# Altium integrated library ALPHA Audio Processor.IntLib: 90 symbols (part 1 of 2)
Pins are listed as number, name and electrical type; pins without a type are passive.

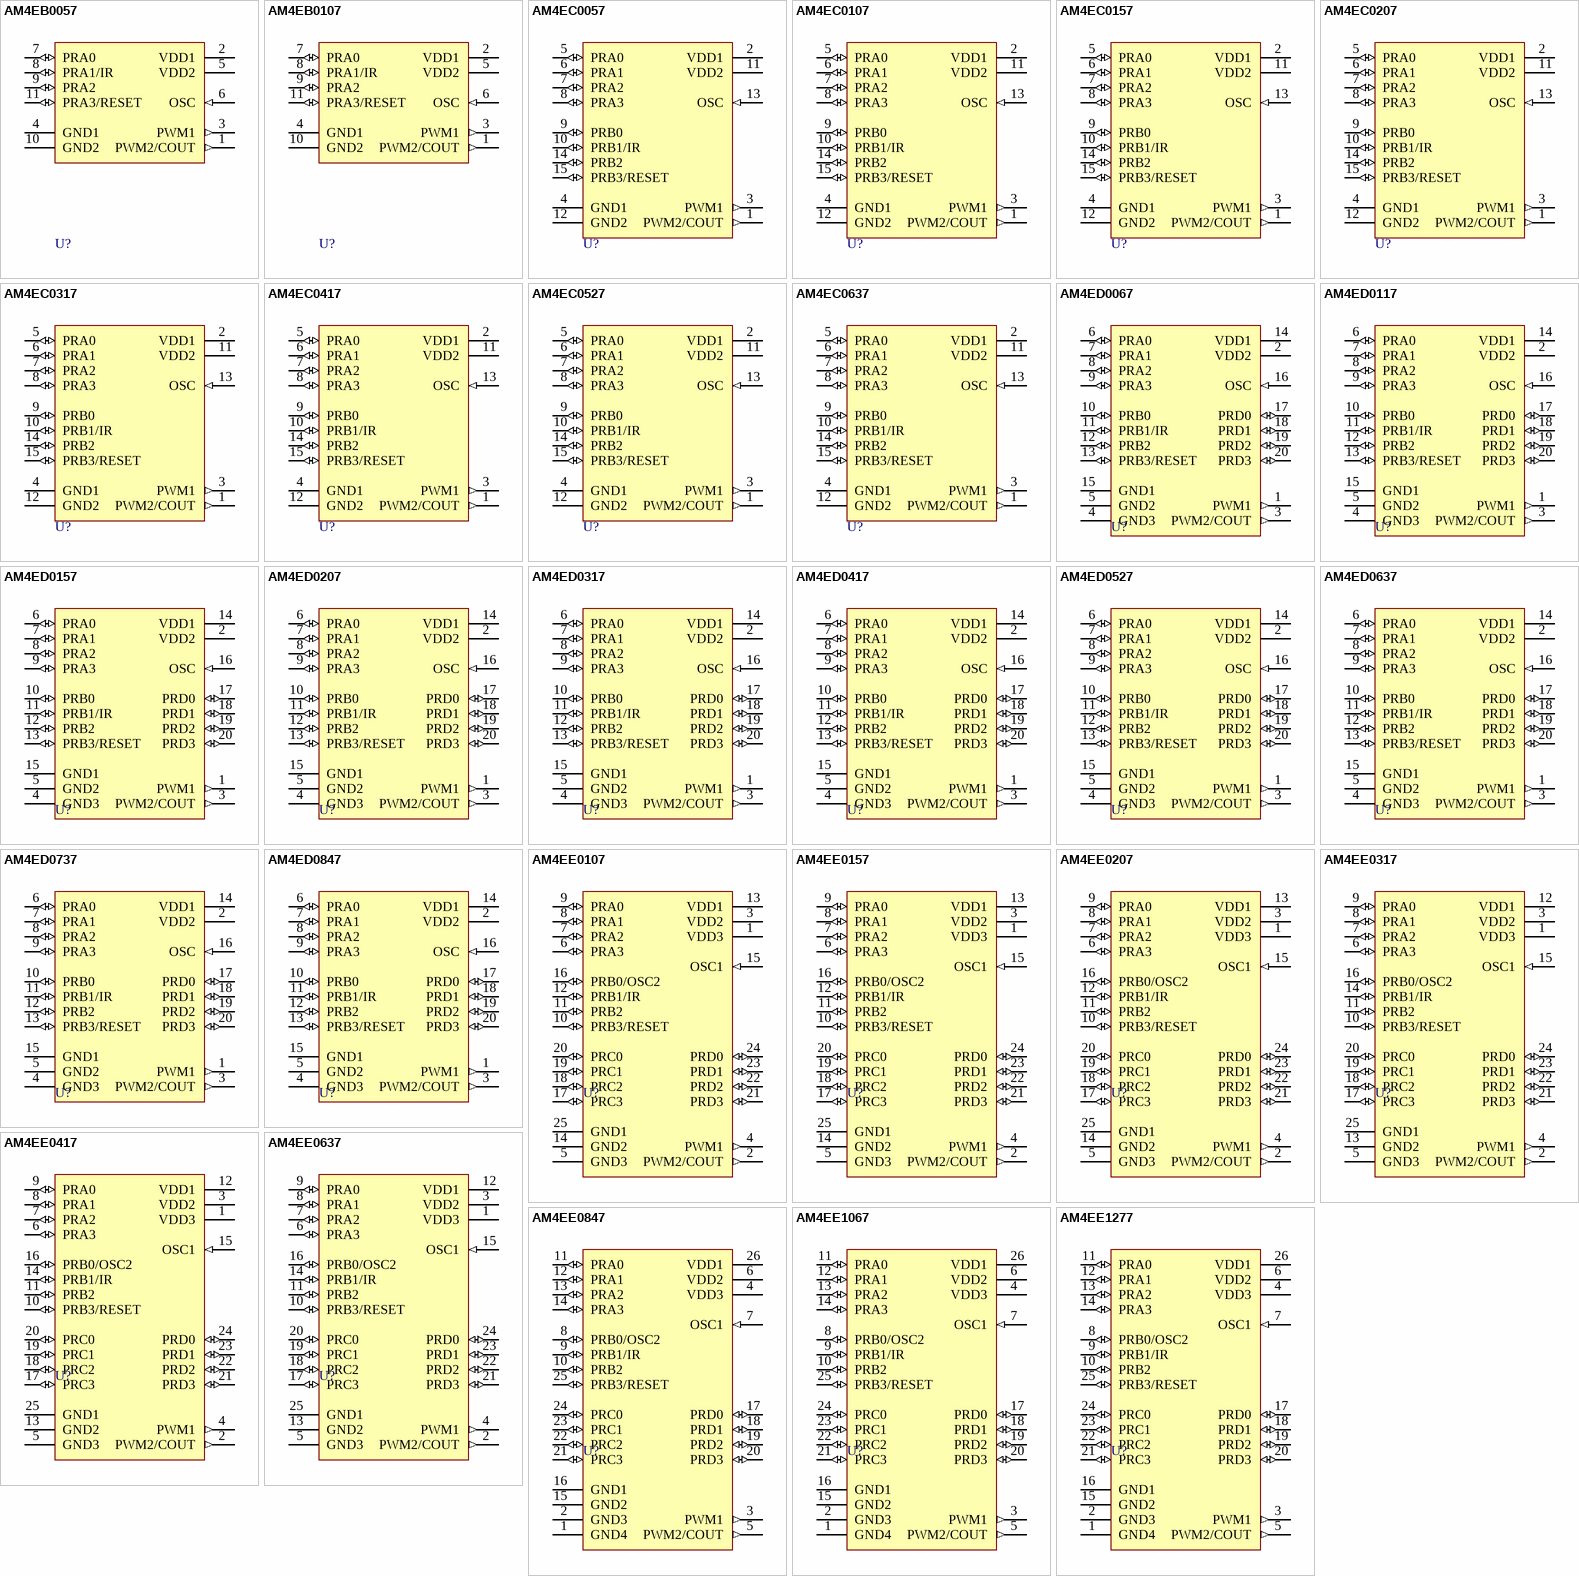
[diagram p0: symbols AM4EB0057 to AM4EE1277]

## AM4EB0057
designator U?
AM4EB Series 4-Bit Audio Synthesizer with 5 Second Voice Duration, 14-Bit VPR and 16k x 10-Bit ROM, Chip Form; PackageForm: Supplied as a Die.; Note: The IC substrate must be connected to GND.; Published: 30-Mar-2007; DatasheetVersion: rev1.5, 2004; PackageReference: Chip_Form; Publisher: Altium Limited; ComponentLink1Description: Manufacturer Link; ComponentLink1URL: http://www.ealpha.com.tw/
pins: 1 PWM2/COUT (out), 2 VDD1 (power), 3 PWM1 (out), 4 GND1 (power), 5 VDD2 (power), 6 OSC (in), 7 PRA0 (io), 8 PRA1/IR (io), 9 PRA2 (io), 10 GND2 (power), 11 PRA3/RESET (io)

## AM4EB0107
designator U?
AM4EB Series 4-Bit Audio Synthesizer with 10 Second Voice Duration, 15-Bit VPR and 32k x 10-Bit ROM, Chip Form; PackageForm: Supplied as a Die.; Note: The IC substrate must be connected to GND.; Published: 30-Mar-2007; DatasheetVersion: rev1.5, 2004; PackageReference: Chip_Form; Publisher: Altium Limited; ComponentLink1Description: Manufacturer Link; ComponentLink1URL: http://www.ealpha.com.tw/
pins: 1 PWM2/COUT (out), 2 VDD1 (power), 3 PWM1 (out), 4 GND1 (power), 5 VDD2 (power), 6 OSC (in), 7 PRA0 (io), 8 PRA1/IR (io), 9 PRA2 (io), 10 GND2 (power), 11 PRA3/RESET (io)

## AM4EC0057
designator U?
AM4EC Series 4-Bit Audio Synthesizer with 5 Second Voice Duration, 14-Bit VPR and 16k x 10-Bit ROM, Chip Form; PackageForm: Supplied as a Die.; Note: The IC substrate must be connected to GND.; Published: 30-Mar-2007; DatasheetVersion: rev1.6, 2004; PackageReference: Chip_Form; Publisher: Altium Limited; ComponentLink1Description: Manufacturer Link; ComponentLink1URL: http://www.ealpha.com.tw/
pins: 1 PWM2/COUT (out), 2 VDD1 (power), 3 PWM1 (out), 4 GND1 (power), 5 PRA0 (io), 6 PRA1 (io), 7 PRA2 (io), 8 PRA3 (io), 9 PRB0 (io), 10 PRB1/IR (io), 11 VDD2 (power), 12 GND2 (power), 13 OSC (in), 14 PRB2 (io), 15 PRB3/RESET (io)

## AM4EC0107
designator U?
AM4EC Series 4-Bit Audio Synthesizer with 10 Second Voice Duration, 15-Bit VPR and 32k x 10-Bit ROM, Chip Form; PackageForm: Supplied as a Die.; Note: The IC substrate must be connected to GND.; Published: 30-Mar-2007; DatasheetVersion: rev1.6, 2004; PackageReference: Chip_Form; Publisher: Altium Limited; ComponentLink1Description: Manufacturer Link; ComponentLink1URL: http://www.ealpha.com.tw/
pins: 1 PWM2/COUT (out), 2 VDD1 (power), 3 PWM1 (out), 4 GND1 (power), 5 PRA0 (io), 6 PRA1 (io), 7 PRA2 (io), 8 PRA3 (io), 9 PRB0 (io), 10 PRB1/IR (io), 11 VDD2 (power), 12 GND2 (power), 13 OSC (in), 14 PRB2 (io), 15 PRB3/RESET (io)

## AM4EC0157
designator U?
AM4EC Series 4-Bit Audio Synthesizer with 15 Second Voice Duration, 16-Bit VPR and 48k x 10-Bit ROM, Chip Form; PackageForm: Supplied as a Die.; Note: The IC substrate must be connected to GND.; Published: 30-Mar-2007; DatasheetVersion: rev1.6, 2004; PackageReference: Chip_Form; Publisher: Altium Limited; ComponentLink1Description: Manufacturer Link; ComponentLink1URL: http://www.ealpha.com.tw/
pins: 1 PWM2/COUT (out), 2 VDD1 (power), 3 PWM1 (out), 4 GND1 (power), 5 PRA0 (io), 6 PRA1 (io), 7 PRA2 (io), 8 PRA3 (io), 9 PRB0 (io), 10 PRB1/IR (io), 11 VDD2 (power), 12 GND2 (power), 13 OSC (in), 14 PRB2 (io), 15 PRB3/RESET (io)

## AM4EC0207
designator U?
AM4EC Series 4-Bit Audio Synthesizer with 20 Second Voice Duration, 16-Bit VPR and 64k x 10-Bit ROM, Chip Form; PackageForm: Supplied as a Die.; Note: The IC substrate must be connected to GND.; Published: 30-Mar-2007; DatasheetVersion: rev1.6, 2004; PackageReference: Chip_Form; Publisher: Altium Limited; ComponentLink1Description: Manufacturer Link; ComponentLink1URL: http://www.ealpha.com.tw/
pins: 1 PWM2/COUT (out), 2 VDD1 (power), 3 PWM1 (out), 4 GND1 (power), 5 PRA0 (io), 6 PRA1 (io), 7 PRA2 (io), 8 PRA3 (io), 9 PRB0 (io), 10 PRB1/IR (io), 11 VDD2 (power), 12 GND2 (power), 13 OSC (in), 14 PRB2 (io), 15 PRB3/RESET (io)

## AM4EC0317
designator U?
AM4EC Series 4-Bit Audio Synthesizer with 31 Second Voice Duration, 17-Bit VPR and 96k x 10-Bit ROM, Chip Form; PackageForm: Supplied as a Die.; Note: The IC substrate must be connected to GND.; Published: 30-Mar-2007; DatasheetVersion: rev1.6, 2004; PackageReference: Chip_Form; Publisher: Altium Limited; ComponentLink1Description: Manufacturer Link; ComponentLink1URL: http://www.ealpha.com.tw/
pins: 1 PWM2/COUT (out), 2 VDD1 (power), 3 PWM1 (out), 4 GND1 (power), 5 PRA0 (io), 6 PRA1 (io), 7 PRA2 (io), 8 PRA3 (io), 9 PRB0 (io), 10 PRB1/IR (io), 11 VDD2 (power), 12 GND2 (power), 13 OSC (in), 14 PRB2 (io), 15 PRB3/RESET (io)

## AM4EC0417
designator U?
AM4EC Series 4-Bit Audio Synthesizer with 41 Second Voice Duration, 17-Bit VPR and 128k x 10-Bit ROM, Chip Form; PackageForm: Supplied as a Die.; Note: The IC substrate must be connected to GND.; Published: 30-Mar-2007; DatasheetVersion: rev1.6, 2004; PackageReference: Chip_Form; Publisher: Altium Limited; ComponentLink1Description: Manufacturer Link; ComponentLink1URL: http://www.ealpha.com.tw/
pins: 1 PWM2/COUT (out), 2 VDD1 (power), 3 PWM1 (out), 4 GND1 (power), 5 PRA0 (io), 6 PRA1 (io), 7 PRA2 (io), 8 PRA3 (io), 9 PRB0 (io), 10 PRB1/IR (io), 11 VDD2 (power), 12 GND2 (power), 13 OSC (in), 14 PRB2 (io), 15 PRB3/RESET (io)

## AM4EC0527
designator U?
AM4EC Series 4-Bit Audio Synthesizer with 52 Second Voice Duration, 18-Bit VPR and 160k x 10-Bit ROM, Chip Form; PackageForm: Supplied as a Die.; Note: The IC substrate must be connected to GND.; Published: 30-Mar-2007; DatasheetVersion: rev1.6, 2004; PackageReference: Chip_Form; Publisher: Altium Limited; ComponentLink1Description: Manufacturer Link; ComponentLink1URL: http://www.ealpha.com.tw/
pins: 1 PWM2/COUT (out), 2 VDD1 (power), 3 PWM1 (out), 4 GND1 (power), 5 PRA0 (io), 6 PRA1 (io), 7 PRA2 (io), 8 PRA3 (io), 9 PRB0 (io), 10 PRB1/IR (io), 11 VDD2 (power), 12 GND2 (power), 13 OSC (in), 14 PRB2 (io), 15 PRB3/RESET (io)

## AM4EC0637
designator U?
AM4EC Series 4-Bit Audio Synthesizer with 63 Second Voice Duration, 18-Bit VPR and 192k x 10-Bit ROM, Chip Form; PackageForm: Supplied as a Die.; Note: The IC substrate must be connected to GND.; Published: 30-Mar-2007; DatasheetVersion: rev1.6, 2004; PackageReference: Chip_Form; Publisher: Altium Limited; ComponentLink1Description: Manufacturer Link; ComponentLink1URL: http://www.ealpha.com.tw/
pins: 1 PWM2/COUT (out), 2 VDD1 (power), 3 PWM1 (out), 4 GND1 (power), 5 PRA0 (io), 6 PRA1 (io), 7 PRA2 (io), 8 PRA3 (io), 9 PRB0 (io), 10 PRB1/IR (io), 11 VDD2 (power), 12 GND2 (power), 13 OSC (in), 14 PRB2 (io), 15 PRB3/RESET (io)

## AM4ED0067
designator U?
AM4ED Series 4-Bit Audio Synthesizer with 6 Second Voice Duration, 14-Bit VPR and 20k x 10-Bit ROM, Chip Form; PackageForm: Supplied as a Die.; Note: The IC substrate must be connected to GND.; Published: 30-Mar-2007; DatasheetVersion: rev1.6, 2004; PackageReference: Chip_Form; Publisher: Altium Limited; ComponentLink1Description: Manufacturer Link; ComponentLink1URL: http://www.ealpha.com.tw/
pins: 1 PWM1 (out), 2 VDD2 (power), 3 PWM2/COUT (out), 4 GND3 (power), 5 GND2 (power), 6 PRA0 (io), 7 PRA1 (io), 8 PRA2 (io), 9 PRA3 (io), 10 PRB0 (io), 11 PRB1/IR (io), 12 PRB2 (io), 13 PRB3/RESET (io), 14 VDD1 (power), 15 GND1 (power), 16 OSC (in), 17 PRD0 (io), 18 PRD1 (io), 19 PRD2 (io), 20 PRD3 (io)

## AM4ED0117
designator U?
AM4ED Series 4-Bit Audio Synthesizer with 11 Second Voice Duration, 15-Bit VPR and 32k x 10-Bit ROM, Chip Form; PackageForm: Supplied as a Die.; Note: The IC substrate must be connected to GND.; Published: 30-Mar-2007; DatasheetVersion: rev1.6, 2004; PackageReference: Chip_Form; Publisher: Altium Limited; ComponentLink1Description: Manufacturer Link; ComponentLink1URL: http://www.ealpha.com.tw/
pins: 1 PWM1 (out), 2 VDD2 (power), 3 PWM2/COUT (out), 4 GND3 (power), 5 GND2 (power), 6 PRA0 (io), 7 PRA1 (io), 8 PRA2 (io), 9 PRA3 (io), 10 PRB0 (io), 11 PRB1/IR (io), 12 PRB2 (io), 13 PRB3/RESET (io), 14 VDD1 (power), 15 GND1 (power), 16 OSC (in), 17 PRD0 (io), 18 PRD1 (io), 19 PRD2 (io), 20 PRD3 (io)

## AM4ED0157
designator U?
AM4ED Series 4-Bit Audio Synthesizer with 15 Second Voice Duration, 16-Bit VPR and 48k x 10-Bit ROM, Chip Form; PackageForm: Supplied as a Die.; Note: The IC substrate must be connected to GND.; Published: 30-Mar-2007; DatasheetVersion: rev1.6, 2004; PackageReference: Chip_Form; Publisher: Altium Limited; ComponentLink1Description: Manufacturer Link; ComponentLink1URL: http://www.ealpha.com.tw/
pins: 1 PWM1 (out), 2 VDD2 (power), 3 PWM2/COUT (out), 4 GND3 (power), 5 GND2 (power), 6 PRA0 (io), 7 PRA1 (io), 8 PRA2 (io), 9 PRA3 (io), 10 PRB0 (io), 11 PRB1/IR (io), 12 PRB2 (io), 13 PRB3/RESET (io), 14 VDD1 (power), 15 GND1 (power), 16 OSC (in), 17 PRD0 (io), 18 PRD1 (io), 19 PRD2 (io), 20 PRD3 (io)

## AM4ED0207
designator U?
AM4ED Series 4-Bit Audio Synthesizer with 20 Second Voice Duration, 16-Bit VPR and 64k x 10-Bit ROM, Chip Form; PackageForm: Supplied as a Die.; Note: The IC substrate must be connected to GND.; Published: 30-Mar-2007; DatasheetVersion: rev1.6, 2004; PackageReference: Chip_Form; Publisher: Altium Limited; ComponentLink1Description: Manufacturer Link; ComponentLink1URL: http://www.ealpha.com.tw/
pins: 1 PWM1 (out), 2 VDD2 (power), 3 PWM2/COUT (out), 4 GND3 (power), 5 GND2 (power), 6 PRA0 (io), 7 PRA1 (io), 8 PRA2 (io), 9 PRA3 (io), 10 PRB0 (io), 11 PRB1/IR (io), 12 PRB2 (io), 13 PRB3/RESET (io), 14 VDD1 (power), 15 GND1 (power), 16 OSC (in), 17 PRD0 (io), 18 PRD1 (io), 19 PRD2 (io), 20 PRD3 (io)

## AM4ED0317
designator U?
AM4ED Series 4-Bit Audio Synthesizer with 31 Second Voice Duration, 17-Bit VPR and 96k x 10-Bit ROM, Chip Form; PackageForm: Supplied as a Die.; Note: The IC substrate must be connected to GND.; Published: 30-Mar-2007; DatasheetVersion: rev1.6, 2004; PackageReference: Chip_Form; Publisher: Altium Limited; ComponentLink1Description: Manufacturer Link; ComponentLink1URL: http://www.ealpha.com.tw/
pins: 1 PWM1 (out), 2 VDD2 (power), 3 PWM2/COUT (out), 4 GND3 (power), 5 GND2 (power), 6 PRA0 (io), 7 PRA1 (io), 8 PRA2 (io), 9 PRA3 (io), 10 PRB0 (io), 11 PRB1/IR (io), 12 PRB2 (io), 13 PRB3/RESET (io), 14 VDD1 (power), 15 GND1 (power), 16 OSC (in), 17 PRD0 (io), 18 PRD1 (io), 19 PRD2 (io), 20 PRD3 (io)

## AM4ED0417
designator U?
AM4ED Series 4-Bit Audio Synthesizer with 41 Second Voice Duration, 17-Bit VPR and 128k x 10-Bit ROM, Chip Form; PackageForm: Supplied as a Die.; Note: The IC substrate must be connected to GND.; Published: 30-Mar-2007; DatasheetVersion: rev1.6, 2004; PackageReference: Chip_Form; Publisher: Altium Limited; ComponentLink1Description: Manufacturer Link; ComponentLink1URL: http://www.ealpha.com.tw/
pins: 1 PWM1 (out), 2 VDD2 (power), 3 PWM2/COUT (out), 4 GND3 (power), 5 GND2 (power), 6 PRA0 (io), 7 PRA1 (io), 8 PRA2 (io), 9 PRA3 (io), 10 PRB0 (io), 11 PRB1/IR (io), 12 PRB2 (io), 13 PRB3/RESET (io), 14 VDD1 (power), 15 GND1 (power), 16 OSC (in), 17 PRD0 (io), 18 PRD1 (io), 19 PRD2 (io), 20 PRD3 (io)

## AM4ED0527
designator U?
AM4ED Series 4-Bit Audio Synthesizer with 52 Second Voice Duration, 18-Bit VPR and 160k x 10-Bit ROM, Chip Form; PackageForm: Supplied as a Die.; Note: The IC substrate must be connected to GND.; Published: 30-Mar-2007; DatasheetVersion: rev1.6, 2004; PackageReference: Chip_Form; Publisher: Altium Limited; ComponentLink1Description: Manufacturer Link; ComponentLink1URL: http://www.ealpha.com.tw/
pins: 1 PWM1 (out), 2 VDD2 (power), 3 PWM2/COUT (out), 4 GND3 (power), 5 GND2 (power), 6 PRA0 (io), 7 PRA1 (io), 8 PRA2 (io), 9 PRA3 (io), 10 PRB0 (io), 11 PRB1/IR (io), 12 PRB2 (io), 13 PRB3/RESET (io), 14 VDD1 (power), 15 GND1 (power), 16 OSC (in), 17 PRD0 (io), 18 PRD1 (io), 19 PRD2 (io), 20 PRD3 (io)

## AM4ED0637
designator U?
AM4ED Series 4-Bit Audio Synthesizer with 63 Second Voice Duration, 18-Bit VPR and 192k x 10-Bit ROM, Chip Form; PackageForm: Supplied as a Die.; Note: The IC substrate must be connected to GND.; Published: 30-Mar-2007; DatasheetVersion: rev1.6, 2004; PackageReference: Chip_Form; Publisher: Altium Limited; ComponentLink1Description: Manufacturer Link; ComponentLink1URL: http://www.ealpha.com.tw/
pins: 1 PWM1 (out), 2 VDD2 (power), 3 PWM2/COUT (out), 4 GND3 (power), 5 GND2 (power), 6 PRA0 (io), 7 PRA1 (io), 8 PRA2 (io), 9 PRA3 (io), 10 PRB0 (io), 11 PRB1/IR (io), 12 PRB2 (io), 13 PRB3/RESET (io), 14 VDD1 (power), 15 GND1 (power), 16 OSC (in), 17 PRD0 (io), 18 PRD1 (io), 19 PRD2 (io), 20 PRD3 (io)

## AM4ED0737
designator U?
AM4ED Series 4-Bit Audio Synthesizer with 73 Second Voice Duration, 18-Bit VPR and 224k x 10-Bit ROM, Chip Form; PackageForm: Supplied as a Die.; Note: The IC substrate must be connected to GND.; Published: 30-Mar-2007; DatasheetVersion: rev1.6, 2004; PackageReference: Chip_Form; Publisher: Altium Limited; ComponentLink1Description: Manufacturer Link; ComponentLink1URL: http://www.ealpha.com.tw/
pins: 1 PWM1 (out), 2 VDD2 (power), 3 PWM2/COUT (out), 4 GND3 (power), 5 GND2 (power), 6 PRA0 (io), 7 PRA1 (io), 8 PRA2 (io), 9 PRA3 (io), 10 PRB0 (io), 11 PRB1/IR (io), 12 PRB2 (io), 13 PRB3/RESET (io), 14 VDD1 (power), 15 GND1 (power), 16 OSC (in), 17 PRD0 (io), 18 PRD1 (io), 19 PRD2 (io), 20 PRD3 (io)

## AM4ED0847
designator U?
AM4ED Series 4-Bit Audio Synthesizer with 84 Second Voice Duration, 18-Bit VPR and 256k x 10-Bit ROM, Chip Form; PackageForm: Supplied as a Die.; Note: The IC substrate must be connected to GND.; Published: 30-Mar-2007; DatasheetVersion: rev1.6, 2004; PackageReference: Chip_Form; Publisher: Altium Limited; ComponentLink1Description: Manufacturer Link; ComponentLink1URL: http://www.ealpha.com.tw/
pins: 1 PWM1 (out), 2 VDD2 (power), 3 PWM2/COUT (out), 4 GND3 (power), 5 GND2 (power), 6 PRA0 (io), 7 PRA1 (io), 8 PRA2 (io), 9 PRA3 (io), 10 PRB0 (io), 11 PRB1/IR (io), 12 PRB2 (io), 13 PRB3/RESET (io), 14 VDD1 (power), 15 GND1 (power), 16 OSC (in), 17 PRD0 (io), 18 PRD1 (io), 19 PRD2 (io), 20 PRD3 (io)

## AM4EE0107
designator U?
AM4EE Series 4-Bit Audio Synthesizer with 10 Second Voice Duration, 15-Bit VPR and 32k x 10-Bit ROM, Chip Form; PackageForm: Supplied as a Die.; Note: The IC substrate must be connected to GND.; Published: 30-Mar-2007; DatasheetVersion: rev1.7, 2004; PackageReference: Chip_Form; Publisher: Altium Limited; ComponentLink1Description: Manufacturer Link; ComponentLink1URL: http://www.ealpha.com.tw/
pins: 1 VDD3 (power), 2 PWM2/COUT (out), 3 VDD2 (power), 4 PWM1 (out), 5 GND3 (power), 6 PRA3 (io), 7 PRA2 (io), 8 PRA1 (io), 9 PRA0 (io), 10 PRB3/RESET (io), 11 PRB2 (io), 12 PRB1/IR (io), 13 VDD1 (power), 14 GND2 (power), 15 OSC1 (in), 16 PRB0/OSC2 (io), 17 PRC3 (io), 18 PRC2 (io), 19 PRC1 (io), 20 PRC0 (io), 21 PRD3 (io), 22 PRD2 (io), 23 PRD1 (io), 24 PRD0 (io), 25 GND1 (power)

## AM4EE0157
designator U?
AM4EE Series 4-Bit Audio Synthesizer with 15 Second Voice Duration, 16-Bit VPR and 48k x 10-Bit ROM, Chip Form; PackageForm: Supplied as a Die.; Note: The IC substrate must be connected to GND.; Published: 30-Mar-2007; DatasheetVersion: rev1.7, 2004; PackageReference: Chip_Form; Publisher: Altium Limited; ComponentLink1Description: Manufacturer Link; ComponentLink1URL: http://www.ealpha.com.tw/
pins: 1 VDD3 (power), 2 PWM2/COUT (out), 3 VDD2 (power), 4 PWM1 (out), 5 GND3 (power), 6 PRA3 (io), 7 PRA2 (io), 8 PRA1 (io), 9 PRA0 (io), 10 PRB3/RESET (io), 11 PRB2 (io), 12 PRB1/IR (io), 13 VDD1 (power), 14 GND2 (power), 15 OSC1 (in), 16 PRB0/OSC2 (io), 17 PRC3 (io), 18 PRC2 (io), 19 PRC1 (io), 20 PRC0 (io), 21 PRD3 (io), 22 PRD2 (io), 23 PRD1 (io), 24 PRD0 (io), 25 GND1 (power)

## AM4EE0207
designator U?
AM4EE Series 4-Bit Audio Synthesizer with 20 Second Voice Duration, 16-Bit VPR and 64k x 10-Bit ROM, Chip Form; PackageForm: Supplied as a Die.; Note: The IC substrate must be connected to GND.; Published: 30-Mar-2007; DatasheetVersion: rev1.7, 2004; PackageReference: Chip_Form; Publisher: Altium Limited; ComponentLink1Description: Manufacturer Link; ComponentLink1URL: http://www.ealpha.com.tw/
pins: 1 VDD3 (power), 2 PWM2/COUT (out), 3 VDD2 (power), 4 PWM1 (out), 5 GND3 (power), 6 PRA3 (io), 7 PRA2 (io), 8 PRA1 (io), 9 PRA0 (io), 10 PRB3/RESET (io), 11 PRB2 (io), 12 PRB1/IR (io), 13 VDD1 (power), 14 GND2 (power), 15 OSC1 (in), 16 PRB0/OSC2 (io), 17 PRC3 (io), 18 PRC2 (io), 19 PRC1 (io), 20 PRC0 (io), 21 PRD3 (io), 22 PRD2 (io), 23 PRD1 (io), 24 PRD0 (io), 25 GND1 (power)

## AM4EE0317
designator U?
AM4EE Series 4-Bit Audio Synthesizer with 31 Second Voice Duration, 17-Bit VPR and 96k x 10-Bit ROM, Chip Form; PackageForm: Supplied as a Die.; Note: The IC substrate must be connected to GND.; Published: 30-Mar-2007; DatasheetVersion: rev1.7, 2004; PackageReference: Chip_Form; Publisher: Altium Limited; ComponentLink1Description: Manufacturer Link; ComponentLink1URL: http://www.ealpha.com.tw/
pins: 1 VDD3 (power), 2 PWM2/COUT (out), 3 VDD2 (power), 4 PWM1 (out), 5 GND3 (power), 6 PRA3 (io), 7 PRA2 (io), 8 PRA1 (io), 9 PRA0 (io), 10 PRB3/RESET (io), 11 PRB2 (io), 12 VDD1 (power), 13 GND2 (power), 14 PRB1/IR (io), 15 OSC1 (in), 16 PRB0/OSC2 (io), 17 PRC3 (io), 18 PRC2 (io), 19 PRC1 (io), 20 PRC0 (io), 21 PRD3 (io), 22 PRD2 (io), 23 PRD1 (io), 24 PRD0 (io), 25 GND1 (power)

## AM4EE0417
designator U?
AM4EE Series 4-Bit Audio Synthesizer with 41 Second Voice Duration, 17-Bit VPR and 128k x 10-Bit ROM, Chip Form; PackageForm: Supplied as a Die.; Note: The IC substrate must be connected to GND.; Published: 30-Mar-2007; DatasheetVersion: rev1.7, 2004; PackageReference: Chip_Form; Publisher: Altium Limited; ComponentLink1Description: Manufacturer Link; ComponentLink1URL: http://www.ealpha.com.tw/
pins: 1 VDD3 (power), 2 PWM2/COUT (out), 3 VDD2 (power), 4 PWM1 (out), 5 GND3 (power), 6 PRA3 (io), 7 PRA2 (io), 8 PRA1 (io), 9 PRA0 (io), 10 PRB3/RESET (io), 11 PRB2 (io), 12 VDD1 (power), 13 GND2 (power), 14 PRB1/IR (io), 15 OSC1 (in), 16 PRB0/OSC2 (io), 17 PRC3 (io), 18 PRC2 (io), 19 PRC1 (io), 20 PRC0 (io), 21 PRD3 (io), 22 PRD2 (io), 23 PRD1 (io), 24 PRD0 (io), 25 GND1 (power)

## AM4EE0637
designator U?
AM4EE Series 4-Bit Audio Synthesizer with 63 Second Voice Duration, 18-Bit VPR and 192k x 10-Bit ROM, Chip Form; PackageForm: Supplied as a Die.; Note: The IC substrate must be connected to GND.; Published: 30-Mar-2007; DatasheetVersion: rev1.7, 2004; PackageReference: Chip_Form; Publisher: Altium Limited; ComponentLink1Description: Manufacturer Link; ComponentLink1URL: http://www.ealpha.com.tw/
pins: 1 VDD3 (power), 2 PWM2/COUT (out), 3 VDD2 (power), 4 PWM1 (out), 5 GND3 (power), 6 PRA3 (io), 7 PRA2 (io), 8 PRA1 (io), 9 PRA0 (io), 10 PRB3/RESET (io), 11 PRB2 (io), 12 VDD1 (power), 13 GND2 (power), 14 PRB1/IR (io), 15 OSC1 (in), 16 PRB0/OSC2 (io), 17 PRC3 (io), 18 PRC2 (io), 19 PRC1 (io), 20 PRC0 (io), 21 PRD3 (io), 22 PRD2 (io), 23 PRD1 (io), 24 PRD0 (io), 25 GND1 (power)

## AM4EE0847
designator U?
AM4EE Series 4-Bit Audio Synthesizer with 84 Second Voice Duration, 18-Bit VPR and 256k x 10-Bit ROM, Chip Form; PackageForm: Supplied as a Die.; Note: The IC substrate must be connected to GND.; Published: 30-Mar-2007; DatasheetVersion: rev1.7, 2004; PackageReference: Chip_Form; Publisher: Altium Limited; ComponentLink1Description: Manufacturer Link; ComponentLink1URL: http://www.ealpha.com.tw/
pins: 1 GND4 (power), 2 GND3 (power), 3 PWM1 (out), 4 VDD3 (power), 5 PWM2/COUT (out), 6 VDD2 (power), 7 OSC1 (in), 8 PRB0/OSC2 (io), 9 PRB1/IR (io), 10 PRB2 (io), 11 PRA0 (io), 12 PRA1 (io), 13 PRA2 (io), 14 PRA3 (io), 15 GND2 (power), 16 GND1 (power), 17 PRD0 (io), 18 PRD1 (io), 19 PRD2 (io), 20 PRD3 (io), 21 PRC3 (io), 22 PRC2 (io), 23 PRC1 (io), 24 PRC0 (io), 25 PRB3/RESET (io), 26 VDD1 (power)

## AM4EE1067
designator U?
AM4EE Series 4-Bit Audio Synthesizer with 106 Second Voice Duration, 19-Bit VPR and 320k x 10-Bit ROM, Chip Form; PackageForm: Supplied as a Die.; Note: The IC substrate must be connected to GND.; Published: 30-Mar-2007; DatasheetVersion: rev1.7, 2004; PackageReference: Chip_Form; Publisher: Altium Limited; ComponentLink1Description: Manufacturer Link; ComponentLink1URL: http://www.ealpha.com.tw/
pins: 1 GND4 (power), 2 GND3 (power), 3 PWM1 (out), 4 VDD3 (power), 5 PWM2/COUT (out), 6 VDD2 (power), 7 OSC1 (in), 8 PRB0/OSC2 (io), 9 PRB1/IR (io), 10 PRB2 (io), 11 PRA0 (io), 12 PRA1 (io), 13 PRA2 (io), 14 PRA3 (io), 15 GND2 (power), 16 GND1 (power), 17 PRD0 (io), 18 PRD1 (io), 19 PRD2 (io), 20 PRD3 (io), 21 PRC3 (io), 22 PRC2 (io), 23 PRC1 (io), 24 PRC0 (io), 25 PRB3/RESET (io), 26 VDD1 (power)

## AM4EE1277
designator U?
AM4EE Series 4-Bit Audio Synthesizer with 127 Second Voice Duration, 19-Bit VPR and 384k x 10-Bit ROM, Chip Form; PackageForm: Supplied as a Die.; Note: The IC substrate must be connected to GND.; Published: 30-Mar-2007; DatasheetVersion: rev1.7, 2004; PackageReference: Chip_Form; Publisher: Altium Limited; ComponentLink1Description: Manufacturer Link; ComponentLink1URL: http://www.ealpha.com.tw/
pins: 1 GND4 (power), 2 GND3 (power), 3 PWM1 (out), 4 VDD3 (power), 5 PWM2/COUT (out), 6 VDD2 (power), 7 OSC1 (in), 8 PRB0/OSC2 (io), 9 PRB1/IR (io), 10 PRB2 (io), 11 PRA0 (io), 12 PRA1 (io), 13 PRA2 (io), 14 PRA3 (io), 15 GND2 (power), 16 GND1 (power), 17 PRD0 (io), 18 PRD1 (io), 19 PRD2 (io), 20 PRD3 (io), 21 PRC3 (io), 22 PRC2 (io), 23 PRC1 (io), 24 PRC0 (io), 25 PRB3/RESET (io), 26 VDD1 (power)

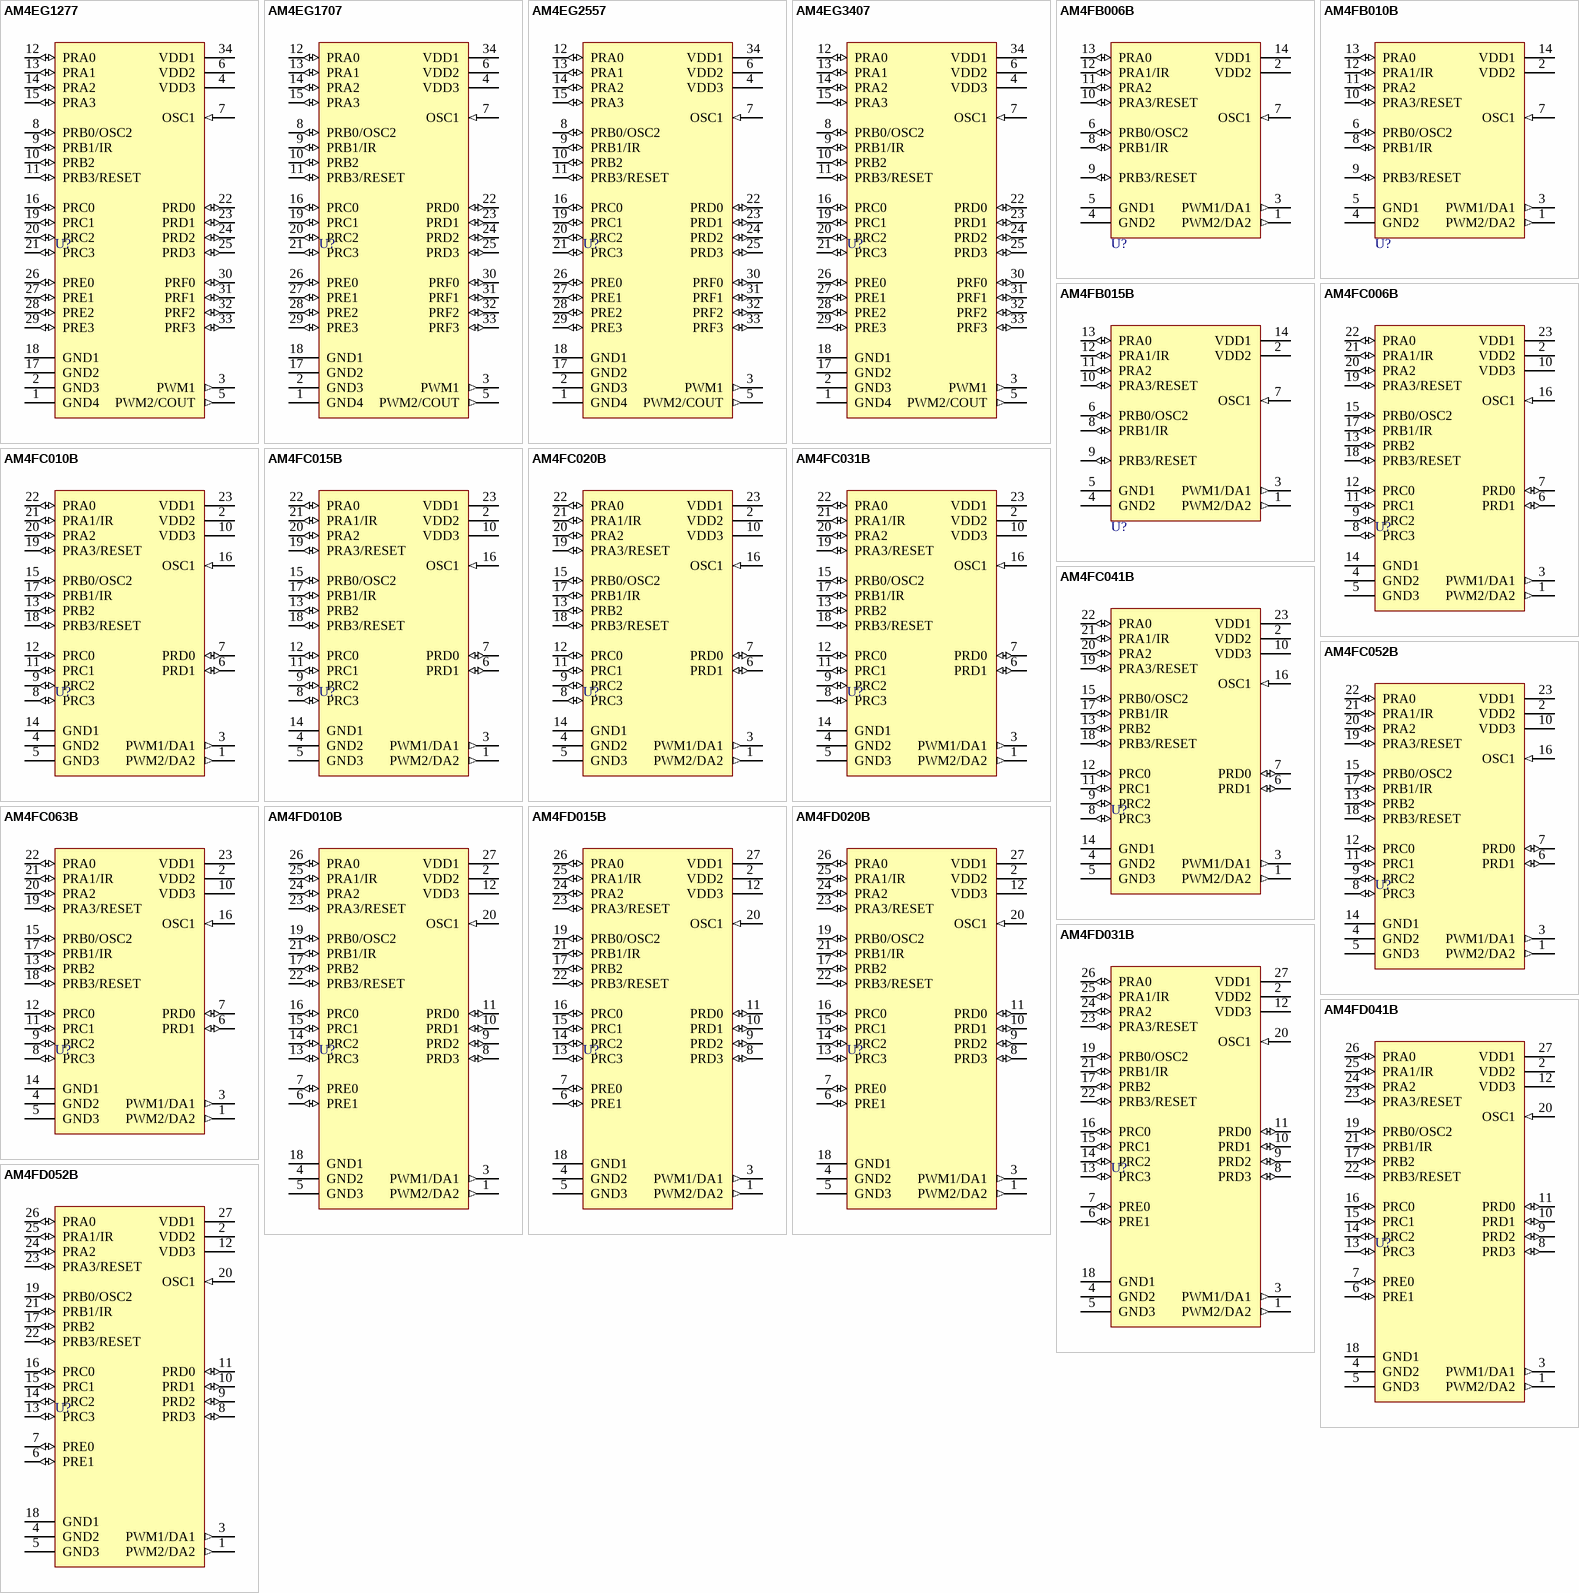
[diagram p1: symbols AM4EG1277 to AM4FD052B]

## AM4EG1277
designator U?
AM4EG Series 4-Bit Audio Synthesizer with 127 Second Voice Duration, 19-Bit VPR and 384k x 10-Bit ROM, Chip Form; PackageForm: Supplied as a Die.; Note: The IC substrate must be connected to GND.; Published: 30-Mar-2007; DatasheetVersion: rev1.6, 2004; PackageReference: Chip_Form; Publisher: Altium Limited; ComponentLink1Description: Manufacturer Link; ComponentLink1URL: http://www.ealpha.com.tw/
pins: 1 GND4 (power), 2 GND3 (power), 3 PWM1 (out), 4 VDD3 (power), 5 PWM2/COUT (out), 6 VDD2 (power), 7 OSC1 (in), 8 PRB0/OSC2 (io), 9 PRB1/IR (io), 10 PRB2 (io), 11 PRB3/RESET (io), 12 PRA0 (io), 13 PRA1 (io), 14 PRA2 (io), 15 PRA3 (io), 16 PRC0 (io), 17 GND2 (power), 18 GND1 (power), 19 PRC1 (io), 20 PRC2 (io), 21 PRC3 (io), 22 PRD0 (io), 23 PRD1 (io), 24 PRD2 (io), 25 PRD3 (io), 26 PRE0 (io), 27 PRE1 (io), 28 PRE2 (io), 29 PRE3 (io), 30 PRF0 (io), 31 PRF1 (io), 32 PRF2 (io), 33 PRF3 (io), 34 VDD1 (power)

## AM4EG1707
designator U?
AM4EG Series 4-Bit Audio Synthesizer with 170 Second Voice Duration, 19-Bit VPR and 512k x 10-Bit ROM, Chip Form; PackageForm: Supplied as a Die.; Note: The IC substrate must be connected to GND.; Published: 30-Mar-2007; DatasheetVersion: rev1.6, 2004; PackageReference: Chip_Form; Publisher: Altium Limited; ComponentLink1Description: Manufacturer Link; ComponentLink1URL: http://www.ealpha.com.tw/
pins: 1 GND4 (power), 2 GND3 (power), 3 PWM1 (out), 4 VDD3 (power), 5 PWM2/COUT (out), 6 VDD2 (power), 7 OSC1 (in), 8 PRB0/OSC2 (io), 9 PRB1/IR (io), 10 PRB2 (io), 11 PRB3/RESET (io), 12 PRA0 (io), 13 PRA1 (io), 14 PRA2 (io), 15 PRA3 (io), 16 PRC0 (io), 17 GND2 (power), 18 GND1 (power), 19 PRC1 (io), 20 PRC2 (io), 21 PRC3 (io), 22 PRD0 (io), 23 PRD1 (io), 24 PRD2 (io), 25 PRD3 (io), 26 PRE0 (io), 27 PRE1 (io), 28 PRE2 (io), 29 PRE3 (io), 30 PRF0 (io), 31 PRF1 (io), 32 PRF2 (io), 33 PRF3 (io), 34 VDD1 (power)

## AM4EG2557
designator U?
AM4EG Series 4-Bit Audio Synthesizer with 255 Second Voice Duration, 20-Bit VPR and 768k x 10-Bit ROM, Chip Form; PackageForm: Supplied as a Die.; Note: The IC substrate must be connected to GND.; Published: 30-Mar-2007; DatasheetVersion: rev1.6, 2004; PackageReference: Chip_Form; Publisher: Altium Limited; ComponentLink1Description: Manufacturer Link; ComponentLink1URL: http://www.ealpha.com.tw/
pins: 1 GND4 (power), 2 GND3 (power), 3 PWM1 (out), 4 VDD3 (power), 5 PWM2/COUT (out), 6 VDD2 (power), 7 OSC1 (in), 8 PRB0/OSC2 (io), 9 PRB1/IR (io), 10 PRB2 (io), 11 PRB3/RESET (io), 12 PRA0 (io), 13 PRA1 (io), 14 PRA2 (io), 15 PRA3 (io), 16 PRC0 (io), 17 GND2 (power), 18 GND1 (power), 19 PRC1 (io), 20 PRC2 (io), 21 PRC3 (io), 22 PRD0 (io), 23 PRD1 (io), 24 PRD2 (io), 25 PRD3 (io), 26 PRE0 (io), 27 PRE1 (io), 28 PRE2 (io), 29 PRE3 (io), 30 PRF0 (io), 31 PRF1 (io), 32 PRF2 (io), 33 PRF3 (io), 34 VDD1 (power)

## AM4EG3407
designator U?
AM4EG Series 4-Bit Audio Synthesizer with 340 Second Voice Duration, 20-Bit VPR and 1024k x 10-Bit ROM, Chip Form; PackageForm: Supplied as a Die.; Note: The IC substrate must be connected to GND.; Published: 30-Mar-2007; DatasheetVersion: rev1.6, 2004; PackageReference: Chip_Form; Publisher: Altium Limited; ComponentLink1Description: Manufacturer Link; ComponentLink1URL: http://www.ealpha.com.tw/
pins: 1 GND4 (power), 2 GND3 (power), 3 PWM1 (out), 4 VDD3 (power), 5 PWM2/COUT (out), 6 VDD2 (power), 7 OSC1 (in), 8 PRB0/OSC2 (io), 9 PRB1/IR (io), 10 PRB2 (io), 11 PRB3/RESET (io), 12 PRA0 (io), 13 PRA1 (io), 14 PRA2 (io), 15 PRA3 (io), 16 PRC0 (io), 17 GND2 (power), 18 GND1 (power), 19 PRC1 (io), 20 PRC2 (io), 21 PRC3 (io), 22 PRD0 (io), 23 PRD1 (io), 24 PRD2 (io), 25 PRD3 (io), 26 PRE0 (io), 27 PRE1 (io), 28 PRE2 (io), 29 PRE3 (io), 30 PRF0 (io), 31 PRF1 (io), 32 PRF2 (io), 33 PRF3 (io), 34 VDD1 (power)

## AM4FB006B
designator U?
AM4FB Series 4-Bit Audio Synthesizer with 6 Second Voice Duration and 24k x 12-Bit ROM, Chip Form; PackageForm: Supplied as a Die.; Note: The IC substrate must be connected to GND.; Published: 30-Mar-2007; DatasheetVersion: rev1.4, 2005; PackageReference: Chip_Form; Publisher: Altium Limited; ComponentLink1Description: Manufacturer Link; ComponentLink1URL: http://www.ealpha.com.tw/
pins: 1 PWM2/DA2 (out), 2 VDD2 (power), 3 PWM1/DA1 (out), 4 GND2 (power), 5 GND1 (power), 6 PRB0/OSC2 (io), 7 OSC1 (in), 8 PRB1/IR (io), 9 PRB3/RESET (io), 10 PRA3/RESET (io), 11 PRA2 (io), 12 PRA1/IR (io), 13 PRA0 (io), 14 VDD1 (power)

## AM4FB010B
designator U?
AM4FB Series 4-Bit Audio Synthesizer with 10 Second Voice Duration and 32k x 12-Bit ROM, Chip Form; PackageForm: Supplied as a Die.; Note: The IC substrate must be connected to GND.; Published: 30-Mar-2007; DatasheetVersion: rev1.4, 2005; PackageReference: Chip_Form; Publisher: Altium Limited; ComponentLink1Description: Manufacturer Link; ComponentLink1URL: http://www.ealpha.com.tw/
pins: 1 PWM2/DA2 (out), 2 VDD2 (power), 3 PWM1/DA1 (out), 4 GND2 (power), 5 GND1 (power), 6 PRB0/OSC2 (io), 7 OSC1 (in), 8 PRB1/IR (io), 9 PRB3/RESET (io), 10 PRA3/RESET (io), 11 PRA2 (io), 12 PRA1/IR (io), 13 PRA0 (io), 14 VDD1 (power)

## AM4FB015B
designator U?
AM4FB Series 4-Bit Audio Synthesizer with 15 Second Voice Duration and 48k x 12-Bit ROM, Chip Form; PackageForm: Supplied as a Die.; Note: The IC substrate must be connected to GND.; Published: 30-Mar-2007; DatasheetVersion: rev1.4, 2005; PackageReference: Chip_Form; Publisher: Altium Limited; ComponentLink1Description: Manufacturer Link; ComponentLink1URL: http://www.ealpha.com.tw/
pins: 1 PWM2/DA2 (out), 2 VDD2 (power), 3 PWM1/DA1 (out), 4 GND2 (power), 5 GND1 (power), 6 PRB0/OSC2 (io), 7 OSC1 (in), 8 PRB1/IR (io), 9 PRB3/RESET (io), 10 PRA3/RESET (io), 11 PRA2 (io), 12 PRA1/IR (io), 13 PRA0 (io), 14 VDD1 (power)

## AM4FC006B
designator U?
AM4FC Series 4-Bit Audio Synthesizer with 6 Second Voice Duration and 24k x 12-Bit ROM, Chip Form; PackageForm: Supplied as a Die.; Note: The IC substrate must be connected to GND.; Published: 30-Mar-2007; DatasheetVersion: rev1.3, 2005; PackageReference: Chip_Form; Publisher: Altium Limited; ComponentLink1Description: Manufacturer Link; ComponentLink1URL: http://www.ealpha.com.tw/
pins: 1 PWM2/DA2 (out), 2 VDD2 (power), 3 PWM1/DA1 (out), 4 GND2 (power), 5 GND3 (power), 6 PRD1 (io), 7 PRD0 (io), 8 PRC3 (io), 9 PRC2 (io), 10 VDD3 (power), 11 PRC1 (io), 12 PRC0 (io), 13 PRB2 (io), 14 GND1 (power), 15 PRB0/OSC2 (io), 16 OSC1 (in), 17 PRB1/IR (io), 18 PRB3/RESET (io), 19 PRA3/RESET (io), 20 PRA2 (io), 21 PRA1/IR (io), 22 PRA0 (io), 23 VDD1 (power)

## AM4FC010B
designator U?
AM4FC Series 4-Bit Audio Synthesizer with 10 Second Voice Duration and 32k x 12-Bit ROM, Chip Form; PackageForm: Supplied as a Die.; Note: The IC substrate must be connected to GND.; Published: 30-Mar-2007; DatasheetVersion: rev1.3, 2005; PackageReference: Chip_Form; Publisher: Altium Limited; ComponentLink1Description: Manufacturer Link; ComponentLink1URL: http://www.ealpha.com.tw/
pins: 1 PWM2/DA2 (out), 2 VDD2 (power), 3 PWM1/DA1 (out), 4 GND2 (power), 5 GND3 (power), 6 PRD1 (io), 7 PRD0 (io), 8 PRC3 (io), 9 PRC2 (io), 10 VDD3 (power), 11 PRC1 (io), 12 PRC0 (io), 13 PRB2 (io), 14 GND1 (power), 15 PRB0/OSC2 (io), 16 OSC1 (in), 17 PRB1/IR (io), 18 PRB3/RESET (io), 19 PRA3/RESET (io), 20 PRA2 (io), 21 PRA1/IR (io), 22 PRA0 (io), 23 VDD1 (power)

## AM4FC015B
designator U?
AM4FC Series 4-Bit Audio Synthesizer with 15 Second Voice Duration and 48k x 12-Bit ROM, Chip Form; PackageForm: Supplied as a Die.; Note: The IC substrate must be connected to GND.; Published: 30-Mar-2007; DatasheetVersion: rev1.3, 2005; PackageReference: Chip_Form; Publisher: Altium Limited; ComponentLink1Description: Manufacturer Link; ComponentLink1URL: http://www.ealpha.com.tw/
pins: 1 PWM2/DA2 (out), 2 VDD2 (power), 3 PWM1/DA1 (out), 4 GND2 (power), 5 GND3 (power), 6 PRD1 (io), 7 PRD0 (io), 8 PRC3 (io), 9 PRC2 (io), 10 VDD3 (power), 11 PRC1 (io), 12 PRC0 (io), 13 PRB2 (io), 14 GND1 (power), 15 PRB0/OSC2 (io), 16 OSC1 (in), 17 PRB1/IR (io), 18 PRB3/RESET (io), 19 PRA3/RESET (io), 20 PRA2 (io), 21 PRA1/IR (io), 22 PRA0 (io), 23 VDD1 (power)

## AM4FC020B
designator U?
AM4FC Series 4-Bit Audio Synthesizer with 20 Second Voice Duration and 64k x 12-Bit ROM, Chip Form; PackageForm: Supplied as a Die.; Note: The IC substrate must be connected to GND.; Published: 30-Mar-2007; DatasheetVersion: rev1.3, 2005; PackageReference: Chip_Form; Publisher: Altium Limited; ComponentLink1Description: Manufacturer Link; ComponentLink1URL: http://www.ealpha.com.tw/
pins: 1 PWM2/DA2 (out), 2 VDD2 (power), 3 PWM1/DA1 (out), 4 GND2 (power), 5 GND3 (power), 6 PRD1 (io), 7 PRD0 (io), 8 PRC3 (io), 9 PRC2 (io), 10 VDD3 (power), 11 PRC1 (io), 12 PRC0 (io), 13 PRB2 (io), 14 GND1 (power), 15 PRB0/OSC2 (io), 16 OSC1 (in), 17 PRB1/IR (io), 18 PRB3/RESET (io), 19 PRA3/RESET (io), 20 PRA2 (io), 21 PRA1/IR (io), 22 PRA0 (io), 23 VDD1 (power)

## AM4FC031B
designator U?
AM4FC Series 4-Bit Audio Synthesizer with 31 Second Voice Duration and 96k x 12-Bit ROM, Chip Form; PackageForm: Supplied as a Die.; Note: The IC substrate must be connected to GND.; Published: 30-Mar-2007; DatasheetVersion: rev1.3, 2005; PackageReference: Chip_Form; Publisher: Altium Limited; ComponentLink1Description: Manufacturer Link; ComponentLink1URL: http://www.ealpha.com.tw/
pins: 1 PWM2/DA2 (out), 2 VDD2 (power), 3 PWM1/DA1 (out), 4 GND2 (power), 5 GND3 (power), 6 PRD1 (io), 7 PRD0 (io), 8 PRC3 (io), 9 PRC2 (io), 10 VDD3 (power), 11 PRC1 (io), 12 PRC0 (io), 13 PRB2 (io), 14 GND1 (power), 15 PRB0/OSC2 (io), 16 OSC1 (in), 17 PRB1/IR (io), 18 PRB3/RESET (io), 19 PRA3/RESET (io), 20 PRA2 (io), 21 PRA1/IR (io), 22 PRA0 (io), 23 VDD1 (power)

## AM4FC041B
designator U?
AM4FC Series 4-Bit Audio Synthesizer with 41 Second Voice Duration and 128k x 12-Bit ROM, Chip Form; PackageForm: Supplied as a Die.; Note: The IC substrate must be connected to GND.; Published: 30-Mar-2007; DatasheetVersion: rev1.3, 2005; PackageReference: Chip_Form; Publisher: Altium Limited; ComponentLink1Description: Manufacturer Link; ComponentLink1URL: http://www.ealpha.com.tw/
pins: 1 PWM2/DA2 (out), 2 VDD2 (power), 3 PWM1/DA1 (out), 4 GND2 (power), 5 GND3 (power), 6 PRD1 (io), 7 PRD0 (io), 8 PRC3 (io), 9 PRC2 (io), 10 VDD3 (power), 11 PRC1 (io), 12 PRC0 (io), 13 PRB2 (io), 14 GND1 (power), 15 PRB0/OSC2 (io), 16 OSC1 (in), 17 PRB1/IR (io), 18 PRB3/RESET (io), 19 PRA3/RESET (io), 20 PRA2 (io), 21 PRA1/IR (io), 22 PRA0 (io), 23 VDD1 (power)

## AM4FC052B
designator U?
AM4FC Series 4-Bit Audio Synthesizer with 52 Second Voice Duration and 160k x 12-Bit ROM, Chip Form; PackageForm: Supplied as a Die.; Note: The IC substrate must be connected to GND.; Published: 30-Mar-2007; DatasheetVersion: rev1.3, 2005; PackageReference: Chip_Form; Publisher: Altium Limited; ComponentLink1Description: Manufacturer Link; ComponentLink1URL: http://www.ealpha.com.tw/
pins: 1 PWM2/DA2 (out), 2 VDD2 (power), 3 PWM1/DA1 (out), 4 GND2 (power), 5 GND3 (power), 6 PRD1 (io), 7 PRD0 (io), 8 PRC3 (io), 9 PRC2 (io), 10 VDD3 (power), 11 PRC1 (io), 12 PRC0 (io), 13 PRB2 (io), 14 GND1 (power), 15 PRB0/OSC2 (io), 16 OSC1 (in), 17 PRB1/IR (io), 18 PRB3/RESET (io), 19 PRA3/RESET (io), 20 PRA2 (io), 21 PRA1/IR (io), 22 PRA0 (io), 23 VDD1 (power)

## AM4FC063B
designator U?
AM4FC Series 4-Bit Audio Synthesizer with 63 Second Voice Duration and 192k x 12-Bit ROM, Chip Form; PackageForm: Supplied as a Die.; Note: The IC substrate must be connected to GND.; Published: 30-Mar-2007; DatasheetVersion: rev1.3, 2005; PackageReference: Chip_Form; Publisher: Altium Limited; ComponentLink1Description: Manufacturer Link; ComponentLink1URL: http://www.ealpha.com.tw/
pins: 1 PWM2/DA2 (out), 2 VDD2 (power), 3 PWM1/DA1 (out), 4 GND2 (power), 5 GND3 (power), 6 PRD1 (io), 7 PRD0 (io), 8 PRC3 (io), 9 PRC2 (io), 10 VDD3 (power), 11 PRC1 (io), 12 PRC0 (io), 13 PRB2 (io), 14 GND1 (power), 15 PRB0/OSC2 (io), 16 OSC1 (in), 17 PRB1/IR (io), 18 PRB3/RESET (io), 19 PRA3/RESET (io), 20 PRA2 (io), 21 PRA1/IR (io), 22 PRA0 (io), 23 VDD1 (power)

## AM4FD010B
designator U?
AM4FD Series 4-Bit Audio Synthesizer with 10 Second Voice Duration and 32k x 12-Bit ROM, Chip Form; PackageForm: Supplied as a Die.; Note: The IC substrate must be connected to GND.; Published: 30-Mar-2007; DatasheetVersion: rev1.4, 2005; PackageReference: Chip_Form; Publisher: Altium Limited; ComponentLink1Description: Manufacturer Link; ComponentLink1URL: http://www.ealpha.com.tw/
pins: 1 PWM2/DA2 (out), 2 VDD2 (power), 3 PWM1/DA1 (out), 4 GND2 (power), 5 GND3 (power), 6 PRE1 (io), 7 PRE0 (io), 8 PRD3 (io), 9 PRD2 (io), 10 PRD1 (io), 11 PRD0 (io), 12 VDD3 (power), 13 PRC3 (io), 14 PRC2 (io), 15 PRC1 (io), 16 PRC0 (io), 17 PRB2 (io), 18 GND1 (power), 19 PRB0/OSC2 (io), 20 OSC1 (in), 21 PRB1/IR (io), 22 PRB3/RESET (io), 23 PRA3/RESET (io), 24 PRA2 (io), 25 PRA1/IR (io), 26 PRA0 (io), 27 VDD1 (power)

## AM4FD015B
designator U?
AM4FD Series 4-Bit Audio Synthesizer with 15 Second Voice Duration and 48k x 12-Bit ROM, Chip Form; PackageForm: Supplied as a Die.; Note: The IC substrate must be connected to GND.; Published: 30-Mar-2007; DatasheetVersion: rev1.4, 2005; PackageReference: Chip_Form; Publisher: Altium Limited; ComponentLink1Description: Manufacturer Link; ComponentLink1URL: http://www.ealpha.com.tw/
pins: 1 PWM2/DA2 (out), 2 VDD2 (power), 3 PWM1/DA1 (out), 4 GND2 (power), 5 GND3 (power), 6 PRE1 (io), 7 PRE0 (io), 8 PRD3 (io), 9 PRD2 (io), 10 PRD1 (io), 11 PRD0 (io), 12 VDD3 (power), 13 PRC3 (io), 14 PRC2 (io), 15 PRC1 (io), 16 PRC0 (io), 17 PRB2 (io), 18 GND1 (power), 19 PRB0/OSC2 (io), 20 OSC1 (in), 21 PRB1/IR (io), 22 PRB3/RESET (io), 23 PRA3/RESET (io), 24 PRA2 (io), 25 PRA1/IR (io), 26 PRA0 (io), 27 VDD1 (power)

## AM4FD020B
designator U?
AM4FD Series 4-Bit Audio Synthesizer with 20 Second Voice Duration and 64k x 12-Bit ROM, Chip Form; PackageForm: Supplied as a Die.; Note: The IC substrate must be connected to GND.; Published: 30-Mar-2007; DatasheetVersion: rev1.4, 2005; PackageReference: Chip_Form; Publisher: Altium Limited; ComponentLink1Description: Manufacturer Link; ComponentLink1URL: http://www.ealpha.com.tw/
pins: 1 PWM2/DA2 (out), 2 VDD2 (power), 3 PWM1/DA1 (out), 4 GND2 (power), 5 GND3 (power), 6 PRE1 (io), 7 PRE0 (io), 8 PRD3 (io), 9 PRD2 (io), 10 PRD1 (io), 11 PRD0 (io), 12 VDD3 (power), 13 PRC3 (io), 14 PRC2 (io), 15 PRC1 (io), 16 PRC0 (io), 17 PRB2 (io), 18 GND1 (power), 19 PRB0/OSC2 (io), 20 OSC1 (in), 21 PRB1/IR (io), 22 PRB3/RESET (io), 23 PRA3/RESET (io), 24 PRA2 (io), 25 PRA1/IR (io), 26 PRA0 (io), 27 VDD1 (power)

## AM4FD031B
designator U?
AM4FD Series 4-Bit Audio Synthesizer with 31 Second Voice Duration and 96k x 12-Bit ROM, Chip Form; PackageForm: Supplied as a Die.; Note: The IC substrate must be connected to GND.; Published: 30-Mar-2007; DatasheetVersion: rev1.4, 2005; PackageReference: Chip_Form; Publisher: Altium Limited; ComponentLink1Description: Manufacturer Link; ComponentLink1URL: http://www.ealpha.com.tw/
pins: 1 PWM2/DA2 (out), 2 VDD2 (power), 3 PWM1/DA1 (out), 4 GND2 (power), 5 GND3 (power), 6 PRE1 (io), 7 PRE0 (io), 8 PRD3 (io), 9 PRD2 (io), 10 PRD1 (io), 11 PRD0 (io), 12 VDD3 (power), 13 PRC3 (io), 14 PRC2 (io), 15 PRC1 (io), 16 PRC0 (io), 17 PRB2 (io), 18 GND1 (power), 19 PRB0/OSC2 (io), 20 OSC1 (in), 21 PRB1/IR (io), 22 PRB3/RESET (io), 23 PRA3/RESET (io), 24 PRA2 (io), 25 PRA1/IR (io), 26 PRA0 (io), 27 VDD1 (power)

## AM4FD041B
designator U?
AM4FD Series 4-Bit Audio Synthesizer with 41 Second Voice Duration and 128k x 12-Bit ROM, Chip Form; PackageForm: Supplied as a Die.; Note: The IC substrate must be connected to GND.; Published: 30-Mar-2007; DatasheetVersion: rev1.4, 2005; PackageReference: Chip_Form; Publisher: Altium Limited; ComponentLink1Description: Manufacturer Link; ComponentLink1URL: http://www.ealpha.com.tw/
pins: 1 PWM2/DA2 (out), 2 VDD2 (power), 3 PWM1/DA1 (out), 4 GND2 (power), 5 GND3 (power), 6 PRE1 (io), 7 PRE0 (io), 8 PRD3 (io), 9 PRD2 (io), 10 PRD1 (io), 11 PRD0 (io), 12 VDD3 (power), 13 PRC3 (io), 14 PRC2 (io), 15 PRC1 (io), 16 PRC0 (io), 17 PRB2 (io), 18 GND1 (power), 19 PRB0/OSC2 (io), 20 OSC1 (in), 21 PRB1/IR (io), 22 PRB3/RESET (io), 23 PRA3/RESET (io), 24 PRA2 (io), 25 PRA1/IR (io), 26 PRA0 (io), 27 VDD1 (power)

## AM4FD052B
designator U?
AM4FD Series 4-Bit Audio Synthesizer with 52 Second Voice Duration and 160k x 12-Bit ROM, Chip Form; PackageForm: Supplied as a Die.; Note: The IC substrate must be connected to GND.; Published: 30-Mar-2007; DatasheetVersion: rev1.4, 2005; PackageReference: Chip_Form; Publisher: Altium Limited; ComponentLink1Description: Manufacturer Link; ComponentLink1URL: http://www.ealpha.com.tw/
pins: 1 PWM2/DA2 (out), 2 VDD2 (power), 3 PWM1/DA1 (out), 4 GND2 (power), 5 GND3 (power), 6 PRE1 (io), 7 PRE0 (io), 8 PRD3 (io), 9 PRD2 (io), 10 PRD1 (io), 11 PRD0 (io), 12 VDD3 (power), 13 PRC3 (io), 14 PRC2 (io), 15 PRC1 (io), 16 PRC0 (io), 17 PRB2 (io), 18 GND1 (power), 19 PRB0/OSC2 (io), 20 OSC1 (in), 21 PRB1/IR (io), 22 PRB3/RESET (io), 23 PRA3/RESET (io), 24 PRA2 (io), 25 PRA1/IR (io), 26 PRA0 (io), 27 VDD1 (power)

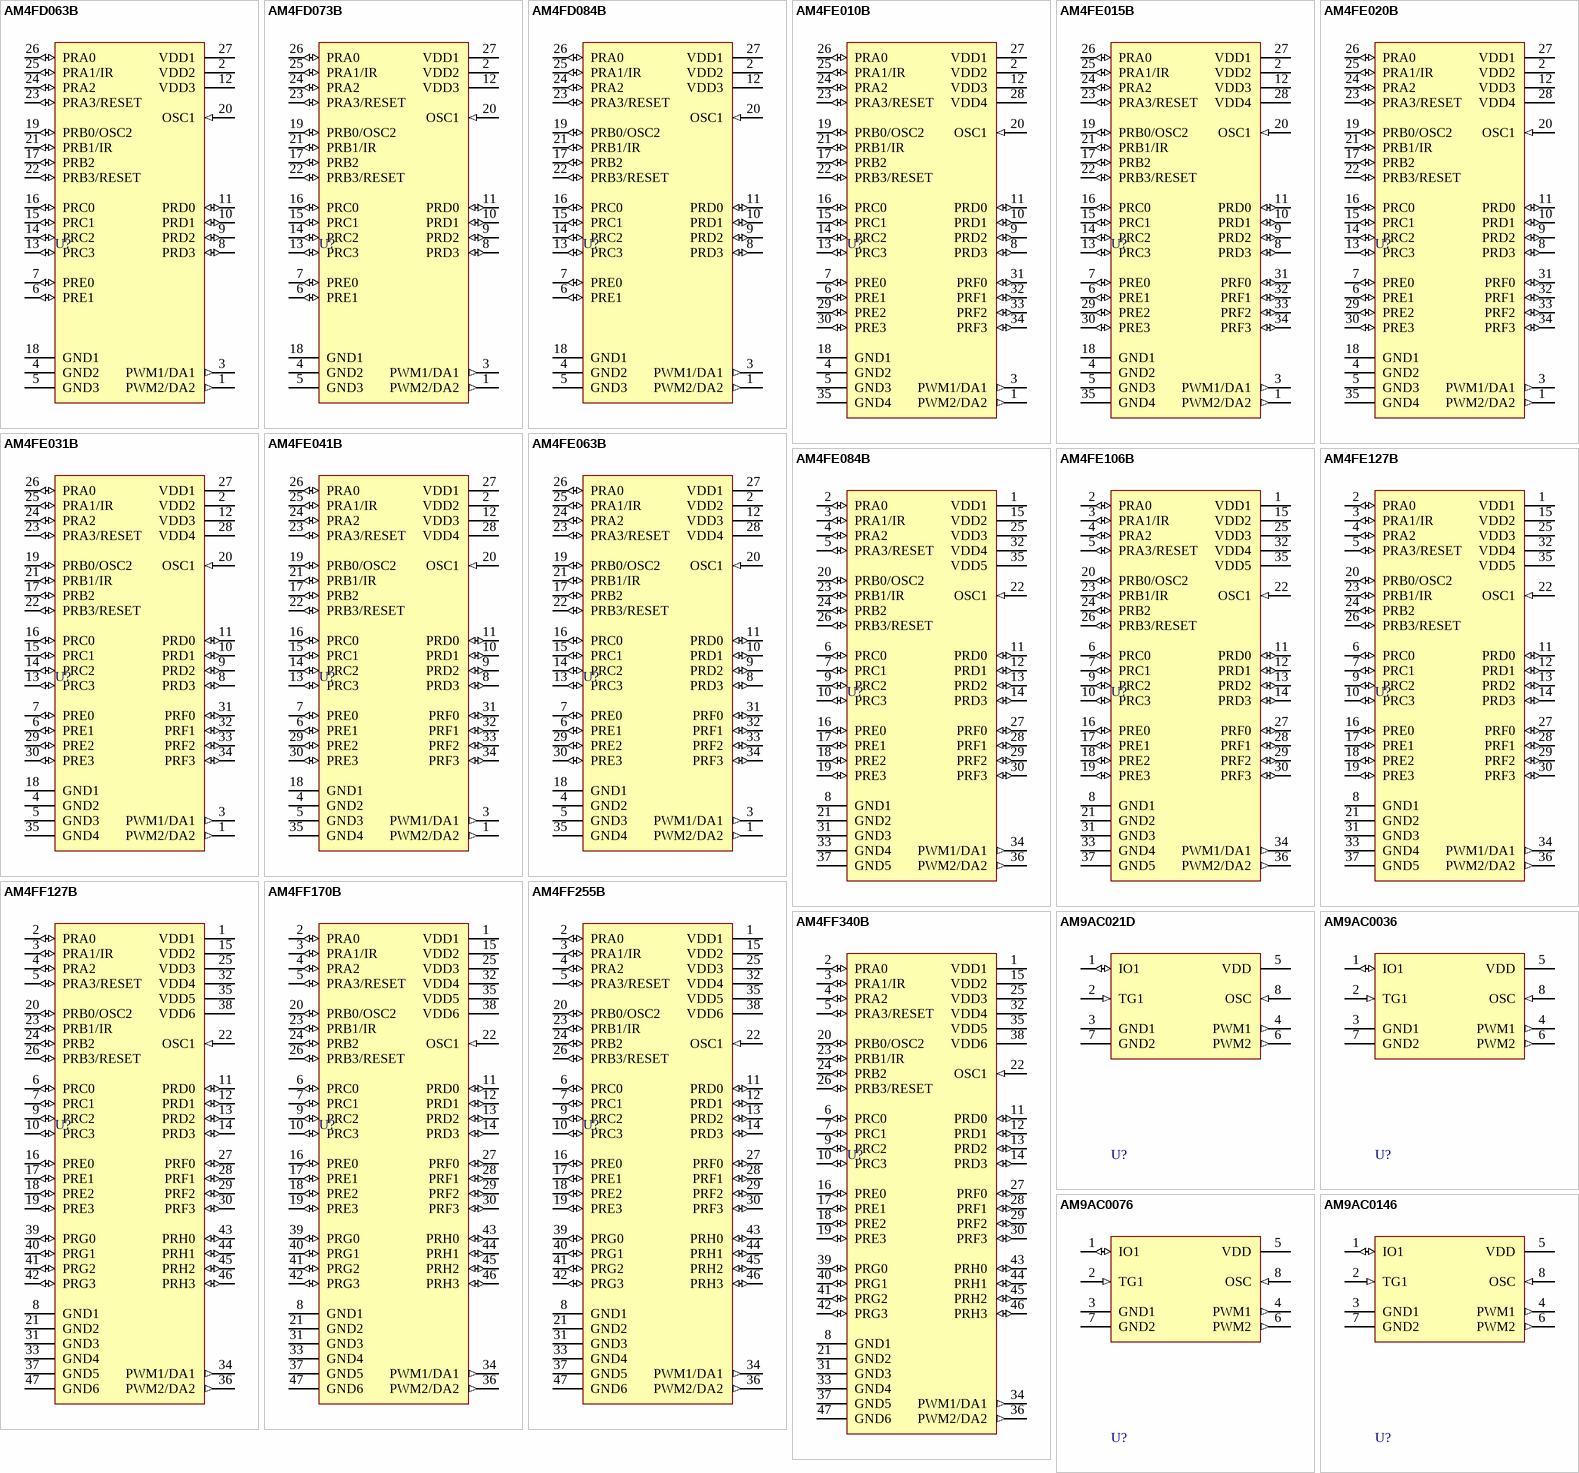
[diagram p2: symbols AM4FD063B to AM9AC0146]

## AM4FD063B
designator U?
AM4FD Series 4-Bit Audio Synthesizer with 63 Second Voice Duration and 192k x 12-Bit ROM, Chip Form; PackageForm: Supplied as a Die.; Note: The IC substrate must be connected to GND.; Published: 30-Mar-2007; DatasheetVersion: rev1.4, 2005; PackageReference: Chip_Form; Publisher: Altium Limited; ComponentLink1Description: Manufacturer Link; ComponentLink1URL: http://www.ealpha.com.tw/
pins: 1 PWM2/DA2 (out), 2 VDD2 (power), 3 PWM1/DA1 (out), 4 GND2 (power), 5 GND3 (power), 6 PRE1 (io), 7 PRE0 (io), 8 PRD3 (io), 9 PRD2 (io), 10 PRD1 (io), 11 PRD0 (io), 12 VDD3 (power), 13 PRC3 (io), 14 PRC2 (io), 15 PRC1 (io), 16 PRC0 (io), 17 PRB2 (io), 18 GND1 (power), 19 PRB0/OSC2 (io), 20 OSC1 (in), 21 PRB1/IR (io), 22 PRB3/RESET (io), 23 PRA3/RESET (io), 24 PRA2 (io), 25 PRA1/IR (io), 26 PRA0 (io), 27 VDD1 (power)

## AM4FD073B
designator U?
AM4FD Series 4-Bit Audio Synthesizer with 73 Second Voice Duration and 224k x 12-Bit ROM, Chip Form; PackageForm: Supplied as a Die.; Note: The IC substrate must be connected to GND.; Published: 30-Mar-2007; DatasheetVersion: rev1.4, 2005; PackageReference: Chip_Form; Publisher: Altium Limited; ComponentLink1Description: Manufacturer Link; ComponentLink1URL: http://www.ealpha.com.tw/
pins: 1 PWM2/DA2 (out), 2 VDD2 (power), 3 PWM1/DA1 (out), 4 GND2 (power), 5 GND3 (power), 6 PRE1 (io), 7 PRE0 (io), 8 PRD3 (io), 9 PRD2 (io), 10 PRD1 (io), 11 PRD0 (io), 12 VDD3 (power), 13 PRC3 (io), 14 PRC2 (io), 15 PRC1 (io), 16 PRC0 (io), 17 PRB2 (io), 18 GND1 (power), 19 PRB0/OSC2 (io), 20 OSC1 (in), 21 PRB1/IR (io), 22 PRB3/RESET (io), 23 PRA3/RESET (io), 24 PRA2 (io), 25 PRA1/IR (io), 26 PRA0 (io), 27 VDD1 (power)

## AM4FD084B
designator U?
AM4FD Series 4-Bit Audio Synthesizer with 84 Second Voice Duration and 256k x 12-Bit ROM, Chip Form; PackageForm: Supplied as a Die.; Note: The IC substrate must be connected to GND.; Published: 30-Mar-2007; DatasheetVersion: rev1.4, 2005; PackageReference: Chip_Form; Publisher: Altium Limited; ComponentLink1Description: Manufacturer Link; ComponentLink1URL: http://www.ealpha.com.tw/
pins: 1 PWM2/DA2 (out), 2 VDD2 (power), 3 PWM1/DA1 (out), 4 GND2 (power), 5 GND3 (power), 6 PRE1 (io), 7 PRE0 (io), 8 PRD3 (io), 9 PRD2 (io), 10 PRD1 (io), 11 PRD0 (io), 12 VDD3 (power), 13 PRC3 (io), 14 PRC2 (io), 15 PRC1 (io), 16 PRC0 (io), 17 PRB2 (io), 18 GND1 (power), 19 PRB0/OSC2 (io), 20 OSC1 (in), 21 PRB1/IR (io), 22 PRB3/RESET (io), 23 PRA3/RESET (io), 24 PRA2 (io), 25 PRA1/IR (io), 26 PRA0 (io), 27 VDD1 (power)

## AM4FE010B
designator U?
AM4FE Series 4-Bit Audio Synthesizer with 10 Second Voice Duration and 32k x 12-Bit ROM, Chip Form; PackageForm: Supplied as a Die.; Note: The IC substrate must be connected to GND.; Published: 30-Mar-2007; DatasheetVersion: rev1.2, 2005; PackageReference: Chip_Form; Publisher: Altium Limited; ComponentLink1Description: Manufacturer Link; ComponentLink1URL: http://www.ealpha.com.tw/
pins: 1 PWM2/DA2 (out), 2 VDD2 (power), 3 PWM1/DA1 (out), 4 GND2 (power), 5 GND3 (power), 6 PRE1 (io), 7 PRE0 (io), 8 PRD3 (io), 9 PRD2 (io), 10 PRD1 (io), 11 PRD0 (io), 12 VDD3 (power), 13 PRC3 (io), 14 PRC2 (io), 15 PRC1 (io), 16 PRC0 (io), 17 PRB2 (io), 18 GND1 (power), 19 PRB0/OSC2 (io), 20 OSC1 (in), 21 PRB1/IR (io), 22 PRB3/RESET (io), 23 PRA3/RESET (io), 24 PRA2 (io), 25 PRA1/IR (io), 26 PRA0 (io), 27 VDD1 (power), 28 VDD4 (power), 29 PRE2 (io), 30 PRE3 (io), 31 PRF0 (io), 32 PRF1 (io), 33 PRF2 (io), 34 PRF3 (io), 35 GND4 (power)

## AM4FE015B
designator U?
AM4FE Series 4-Bit Audio Synthesizer with 15 Second Voice Duration and 48k x 12-Bit ROM, Chip Form; PackageForm: Supplied as a Die.; Note: The IC substrate must be connected to GND.; Published: 30-Mar-2007; DatasheetVersion: rev1.2, 2005; PackageReference: Chip_Form; Publisher: Altium Limited; ComponentLink1Description: Manufacturer Link; ComponentLink1URL: http://www.ealpha.com.tw/
pins: 1 PWM2/DA2 (out), 2 VDD2 (power), 3 PWM1/DA1 (out), 4 GND2 (power), 5 GND3 (power), 6 PRE1 (io), 7 PRE0 (io), 8 PRD3 (io), 9 PRD2 (io), 10 PRD1 (io), 11 PRD0 (io), 12 VDD3 (power), 13 PRC3 (io), 14 PRC2 (io), 15 PRC1 (io), 16 PRC0 (io), 17 PRB2 (io), 18 GND1 (power), 19 PRB0/OSC2 (io), 20 OSC1 (in), 21 PRB1/IR (io), 22 PRB3/RESET (io), 23 PRA3/RESET (io), 24 PRA2 (io), 25 PRA1/IR (io), 26 PRA0 (io), 27 VDD1 (power), 28 VDD4 (power), 29 PRE2 (io), 30 PRE3 (io), 31 PRF0 (io), 32 PRF1 (io), 33 PRF2 (io), 34 PRF3 (io), 35 GND4 (power)

## AM4FE020B
designator U?
AM4FE Series 4-Bit Audio Synthesizer with 20 Second Voice Duration and 64k x 12-Bit ROM, Chip Form; PackageForm: Supplied as a Die.; Note: The IC substrate must be connected to GND.; Published: 30-Mar-2007; DatasheetVersion: rev1.2, 2005; PackageReference: Chip_Form; Publisher: Altium Limited; ComponentLink1Description: Manufacturer Link; ComponentLink1URL: http://www.ealpha.com.tw/
pins: 1 PWM2/DA2 (out), 2 VDD2 (power), 3 PWM1/DA1 (out), 4 GND2 (power), 5 GND3 (power), 6 PRE1 (io), 7 PRE0 (io), 8 PRD3 (io), 9 PRD2 (io), 10 PRD1 (io), 11 PRD0 (io), 12 VDD3 (power), 13 PRC3 (io), 14 PRC2 (io), 15 PRC1 (io), 16 PRC0 (io), 17 PRB2 (io), 18 GND1 (power), 19 PRB0/OSC2 (io), 20 OSC1 (in), 21 PRB1/IR (io), 22 PRB3/RESET (io), 23 PRA3/RESET (io), 24 PRA2 (io), 25 PRA1/IR (io), 26 PRA0 (io), 27 VDD1 (power), 28 VDD4 (power), 29 PRE2 (io), 30 PRE3 (io), 31 PRF0 (io), 32 PRF1 (io), 33 PRF2 (io), 34 PRF3 (io), 35 GND4 (power)

## AM4FE031B
designator U?
AM4FE Series 4-Bit Audio Synthesizer with 31 Second Voice Duration and 96k x 12-Bit ROM, Chip Form; PackageForm: Supplied as a Die.; Note: The IC substrate must be connected to GND.; Published: 30-Mar-2007; DatasheetVersion: rev1.2, 2005; PackageReference: Chip_Form; Publisher: Altium Limited; ComponentLink1Description: Manufacturer Link; ComponentLink1URL: http://www.ealpha.com.tw/
pins: 1 PWM2/DA2 (out), 2 VDD2 (power), 3 PWM1/DA1 (out), 4 GND2 (power), 5 GND3 (power), 6 PRE1 (io), 7 PRE0 (io), 8 PRD3 (io), 9 PRD2 (io), 10 PRD1 (io), 11 PRD0 (io), 12 VDD3 (power), 13 PRC3 (io), 14 PRC2 (io), 15 PRC1 (io), 16 PRC0 (io), 17 PRB2 (io), 18 GND1 (power), 19 PRB0/OSC2 (io), 20 OSC1 (in), 21 PRB1/IR (io), 22 PRB3/RESET (io), 23 PRA3/RESET (io), 24 PRA2 (io), 25 PRA1/IR (io), 26 PRA0 (io), 27 VDD1 (power), 28 VDD4 (power), 29 PRE2 (io), 30 PRE3 (io), 31 PRF0 (io), 32 PRF1 (io), 33 PRF2 (io), 34 PRF3 (io), 35 GND4 (power)

## AM4FE041B
designator U?
AM4FE Series 4-Bit Audio Synthesizer with 41 Second Voice Duration and 128k x 12-Bit ROM, Chip Form; PackageForm: Supplied as a Die.; Note: The IC substrate must be connected to GND.; Published: 30-Mar-2007; DatasheetVersion: rev1.2, 2005; PackageReference: Chip_Form; Publisher: Altium Limited; ComponentLink1Description: Manufacturer Link; ComponentLink1URL: http://www.ealpha.com.tw/
pins: 1 PWM2/DA2 (out), 2 VDD2 (power), 3 PWM1/DA1 (out), 4 GND2 (power), 5 GND3 (power), 6 PRE1 (io), 7 PRE0 (io), 8 PRD3 (io), 9 PRD2 (io), 10 PRD1 (io), 11 PRD0 (io), 12 VDD3 (power), 13 PRC3 (io), 14 PRC2 (io), 15 PRC1 (io), 16 PRC0 (io), 17 PRB2 (io), 18 GND1 (power), 19 PRB0/OSC2 (io), 20 OSC1 (in), 21 PRB1/IR (io), 22 PRB3/RESET (io), 23 PRA3/RESET (io), 24 PRA2 (io), 25 PRA1/IR (io), 26 PRA0 (io), 27 VDD1 (power), 28 VDD4 (power), 29 PRE2 (io), 30 PRE3 (io), 31 PRF0 (io), 32 PRF1 (io), 33 PRF2 (io), 34 PRF3 (io), 35 GND4 (power)

## AM4FE063B
designator U?
AM4FE Series 4-Bit Audio Synthesizer with 63 Second Voice Duration and 192k x 12-Bit ROM, Chip Form; PackageForm: Supplied as a Die.; Note: The IC substrate must be connected to GND.; Published: 30-Mar-2007; DatasheetVersion: rev1.2, 2005; PackageReference: Chip_Form; Publisher: Altium Limited; ComponentLink1Description: Manufacturer Link; ComponentLink1URL: http://www.ealpha.com.tw/
pins: 1 PWM2/DA2 (out), 2 VDD2 (power), 3 PWM1/DA1 (out), 4 GND2 (power), 5 GND3 (power), 6 PRE1 (io), 7 PRE0 (io), 8 PRD3 (io), 9 PRD2 (io), 10 PRD1 (io), 11 PRD0 (io), 12 VDD3 (power), 13 PRC3 (io), 14 PRC2 (io), 15 PRC1 (io), 16 PRC0 (io), 17 PRB2 (io), 18 GND1 (power), 19 PRB0/OSC2 (io), 20 OSC1 (in), 21 PRB1/IR (io), 22 PRB3/RESET (io), 23 PRA3/RESET (io), 24 PRA2 (io), 25 PRA1/IR (io), 26 PRA0 (io), 27 VDD1 (power), 28 VDD4 (power), 29 PRE2 (io), 30 PRE3 (io), 31 PRF0 (io), 32 PRF1 (io), 33 PRF2 (io), 34 PRF3 (io), 35 GND4 (power)

## AM4FE084B
designator U?
AM4FE Series 4-Bit Audio Synthesizer with 84 Second Voice Duration and 256k x 12-Bit ROM, Chip Form; PackageForm: Supplied as a Die.; Note: The IC substrate must be connected to GND.; Published: 30-Mar-2007; DatasheetVersion: rev1.2, 2005; PackageReference: Chip_Form; Publisher: Altium Limited; ComponentLink1Description: Manufacturer Link; ComponentLink1URL: http://www.ealpha.com.tw/
pins: 1 VDD1 (power), 2 PRA0 (io), 3 PRA1/IR (io), 4 PRA2 (io), 5 PRA3/RESET (io), 6 PRC0 (io), 7 PRC1 (io), 8 GND1 (power), 9 PRC2 (io), 10 PRC3 (io), 11 PRD0 (io), 12 PRD1 (io), 13 PRD2 (io), 14 PRD3 (io), 15 VDD2 (power), 16 PRE0 (io), 17 PRE1 (io), 18 PRE2 (io), 19 PRE3 (io), 20 PRB0/OSC2 (io), 21 GND2 (power), 22 OSC1 (in), 23 PRB1/IR (io), 24 PRB2 (io), 25 VDD3 (power), 26 PRB3/RESET (io), 27 PRF0 (io), 28 PRF1 (io), 29 PRF2 (io), 30 PRF3 (io), 31 GND3 (power), 32 VDD4 (power), 33 GND4 (power), 34 PWM1/DA1 (out), 35 VDD5 (power), 36 PWM2/DA2 (out), 37 GND5 (power)

## AM4FE106B
designator U?
AM4FE Series 4-Bit Audio Synthesizer with 106 Second Voice Duration and 320k x 12-Bit ROM, Chip Form; PackageForm: Supplied as a Die.; Note: The IC substrate must be connected to GND.; Published: 30-Mar-2007; DatasheetVersion: rev1.2, 2005; PackageReference: Chip_Form; Publisher: Altium Limited; ComponentLink1Description: Manufacturer Link; ComponentLink1URL: http://www.ealpha.com.tw/
pins: 1 VDD1 (power), 2 PRA0 (io), 3 PRA1/IR (io), 4 PRA2 (io), 5 PRA3/RESET (io), 6 PRC0 (io), 7 PRC1 (io), 8 GND1 (power), 9 PRC2 (io), 10 PRC3 (io), 11 PRD0 (io), 12 PRD1 (io), 13 PRD2 (io), 14 PRD3 (io), 15 VDD2 (power), 16 PRE0 (io), 17 PRE1 (io), 18 PRE2 (io), 19 PRE3 (io), 20 PRB0/OSC2 (io), 21 GND2 (power), 22 OSC1 (in), 23 PRB1/IR (io), 24 PRB2 (io), 25 VDD3 (power), 26 PRB3/RESET (io), 27 PRF0 (io), 28 PRF1 (io), 29 PRF2 (io), 30 PRF3 (io), 31 GND3 (power), 32 VDD4 (power), 33 GND4 (power), 34 PWM1/DA1 (out), 35 VDD5 (power), 36 PWM2/DA2 (out), 37 GND5 (power)

## AM4FE127B
designator U?
AM4FE Series 4-Bit Audio Synthesizer with 127 Second Voice Duration and 384k x 12-Bit ROM, Chip Form; PackageForm: Supplied as a Die.; Note: The IC substrate must be connected to GND.; Published: 30-Mar-2007; DatasheetVersion: rev1.2, 2005; PackageReference: Chip_Form; Publisher: Altium Limited; ComponentLink1Description: Manufacturer Link; ComponentLink1URL: http://www.ealpha.com.tw/
pins: 1 VDD1 (power), 2 PRA0 (io), 3 PRA1/IR (io), 4 PRA2 (io), 5 PRA3/RESET (io), 6 PRC0 (io), 7 PRC1 (io), 8 GND1 (power), 9 PRC2 (io), 10 PRC3 (io), 11 PRD0 (io), 12 PRD1 (io), 13 PRD2 (io), 14 PRD3 (io), 15 VDD2 (power), 16 PRE0 (io), 17 PRE1 (io), 18 PRE2 (io), 19 PRE3 (io), 20 PRB0/OSC2 (io), 21 GND2 (power), 22 OSC1 (in), 23 PRB1/IR (io), 24 PRB2 (io), 25 VDD3 (power), 26 PRB3/RESET (io), 27 PRF0 (io), 28 PRF1 (io), 29 PRF2 (io), 30 PRF3 (io), 31 GND3 (power), 32 VDD4 (power), 33 GND4 (power), 34 PWM1/DA1 (out), 35 VDD5 (power), 36 PWM2/DA2 (out), 37 GND5 (power)